# Altium schematic symbol library SN65HVD379DR.SchLib: 1 symbol
Pins are listed as number, name and electrical type; pins without a type are passive.

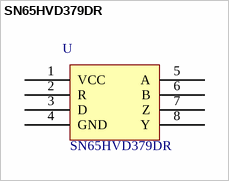
[diagram p0: symbol SN65HVD379DR]

## SN65HVD379DR
designator U
Manufacturer Code: SN65HVD379DG4; Manufacturer: Texas Instruments; Farnell Code: 1390639; Unit Price: 5,80 €; Value: SN65HVD379DR
footprint SO8 (Footprint not found)
pins: 1 VCC, 2 R, 3 D, 4 GND, 5 A, 6 B, 7 Z, 8 Y